# EAGLE library part 691321300013 (library WR-TBL Pluggable Connector)
WR-TBL Serie 321 - 3.81 mm Vertical PCB Header KIND PROPERTIES Pitch 3.81 mm MATERIAL PROPERTIES Insulator Material PA66 Insulator Flammability Rating UL94 V-0 Contact Material Brass Contact Plating Tin GENERAL INFORMATION Operating Temperature -40 up to +105 °C Compliance RoHS ELECTRICAL PROPERTIES IR cULus 10 A IR VDE 10.5 A Working Voltage [cULus] 300 V (AC) Working Voltage [VDE] 300 V (AC) Withstanding Voltage [cULus] 1600 V (AC) Withstanding Voltage [VDE] 2500 V (AC) Contact Resistance [cULus] 20 mΩ Contact Resistance [VDE] 20 mΩ CERTIFICATION cULus Approval E315414 VDE Approval 40023195 <https://www.we-online.com/catalog/media/o33275v209%20Family_WR-TBL_6913213000xx.jpg> Details see: https://www.we-online.com/catalog/en/TBL_3_81_321_VERTICAL_PCB_HEADER_6913213000XX/ Updated by Ella Wu 2019-12-18 2022(C) Wurth Elektronik
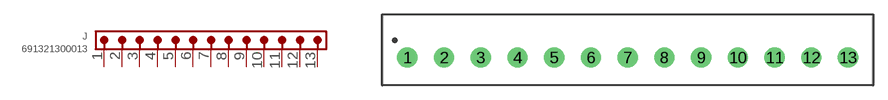
[diagram p185: symbol with the pads of 691321300013; footprint 691321300013]

Designator prefix J

## 691321300013 (DATASHEET-URL: https://www.we-online.com/redexpert/spec/691321300013?ae; IR-UL: 10A; IR-VDE: 10.5A; MOUNT: THT; PART-NUMBER: 691321300013; PINS: 13; PITCH: 3.81mm; TYPE: Vertical; VALUE: 691321300013; WORKING-VOLTAGE-UL: 300V (AC); WORKING-VOLTAGE-VDE: 300V (AC))  [691321300013]
1  1  pas
2  2  pas
3  3  pas
4  4  pas
5  5  pas
6  6  pas
7  7  pas
8  8  pas
9  9  pas
10  10  pas
11  11  pas
12  12  pas
13  13  pas

## Footprint 691321300013 (pad centres in mm)
WR-TBL Serie 321 - 3.81 mm Vertical PCB Header Max Height = 9.2mm , Pitch 3.81mm , 13pins
drill 1.4: 1 -22.86,0; 2 -19.05,0; 3 -15.24,0; 4 -11.43,0; 5 -7.62,0; 6 -3.81,0; 7 0,0; 8 3.81,0; 9 7.62,0; 10 11.43,0; 11 15.24,0; 12 19.05,0; 13 22.86,0